# EAGLE library part ATTINY85-20PU (library NickParts)
MICROCHIP - ATTINY85-20PU - MICROCONTROLLER MCU, 8 BIT, ATTINY, 20MHZ, DIP-8 Source: Datasheet <https://componentsearchengine.com/Datasheets/2/ATTINY85-20PU.pdf>
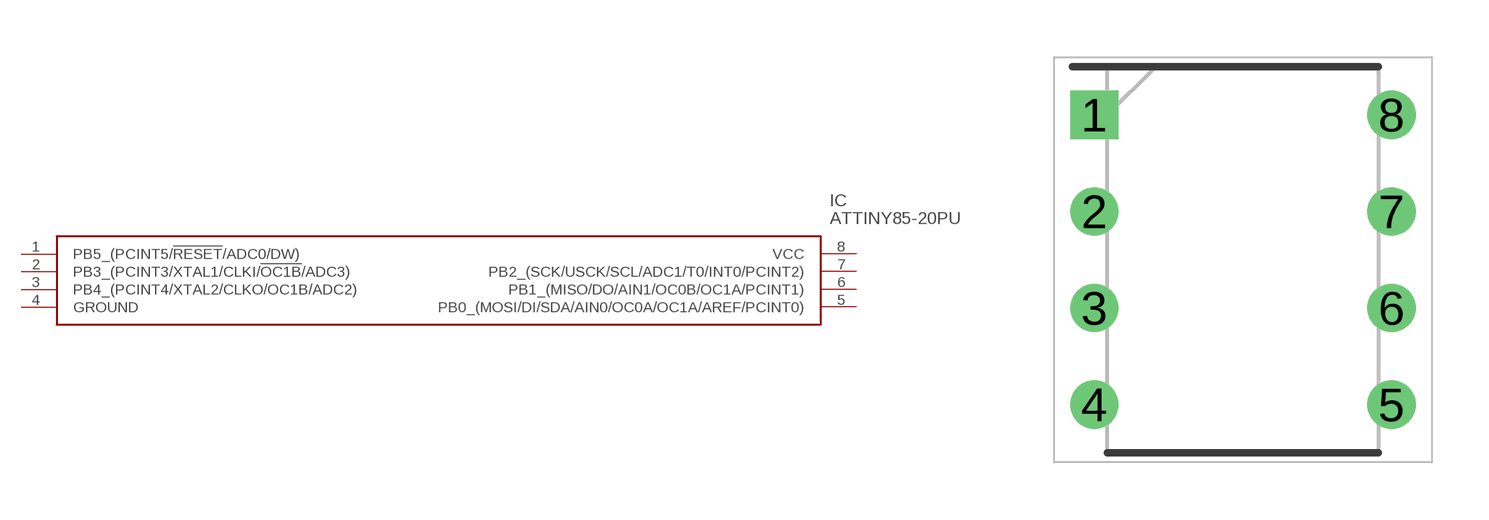
[diagram p3: symbol with the pads of DIP781W56P254L950H533Q8N; footprint DIP781W56P254L950H533Q8N]

Designator prefix IC

## ATTINY85-20PU (ARROW_PART_NUMBER: ATTINY85-20PU; ARROW_PRICE/STOCK: https://www.arrow.com/en/products/attiny85-20pu/microchip-technology; DESCRIPTION: MICROCHIP - ATTINY85-20PU - MICROCONTROLLER MCU, 8 BIT, ATTINY, 20MHZ, DIP-8; HEIGHT: 5.334mm; MANUFACTURER_NAME: Microchip; MANUFACTURER_PART_NUMBER: ATTINY85-20PU; RS_PART_NUMBER: 9214554; RS_PRICE/STOCK: http://uk.rs-online.com/web/p/products/9214554)  [DIP781W56P254L950H533Q8N]
1  PB5_(PCINT5/!RESET!/ADC0/DW)
2  PB3_(PCINT3/XTAL1/CLKI/!OC1B!/ADC3)
3  PB4_(PCINT4/XTAL2/CLKO/OC1B/ADC2)
4  GROUND  pwr
5  PB0_(MOSI/DI/SDA/AIN0/OC0A/OC1A/AREF/PCINT0)
6  PB1_(MISO/DO/AIN1/OC0B/OC1A/PCINT1)
7  PB2_(SCK/USCK/SCL/ADC1/T0/INT0/PCINT2)
8  VCC  pwr

## Footprint DIP781W56P254L950H533Q8N (pad centres in mm)
MCP6541-I/P PDIP
drill 0.759 pad 1.159 square: 1 -3.905,3.81
drill 0.759 pad 1.159: 2 -3.905,1.27; 3 -3.905,-1.27; 4 -3.905,-3.81; 5 3.905,-3.81; 6 3.905,-1.27; 7 3.905,1.27; 8 3.905,3.81